# Altium footprint library Transistors.PcbLib: 33 footprints (part 2 of 3)
Each footprint in its own frame and in the unit in brackets; x right, y up, seen from the top. Pads: shape width x height; smd on the part's side, far side on the other; paste and mask are expansions set on the pad; w line width, h text height; cw(c..) or ccw(c..) is an arc to the next point about the centre after c.
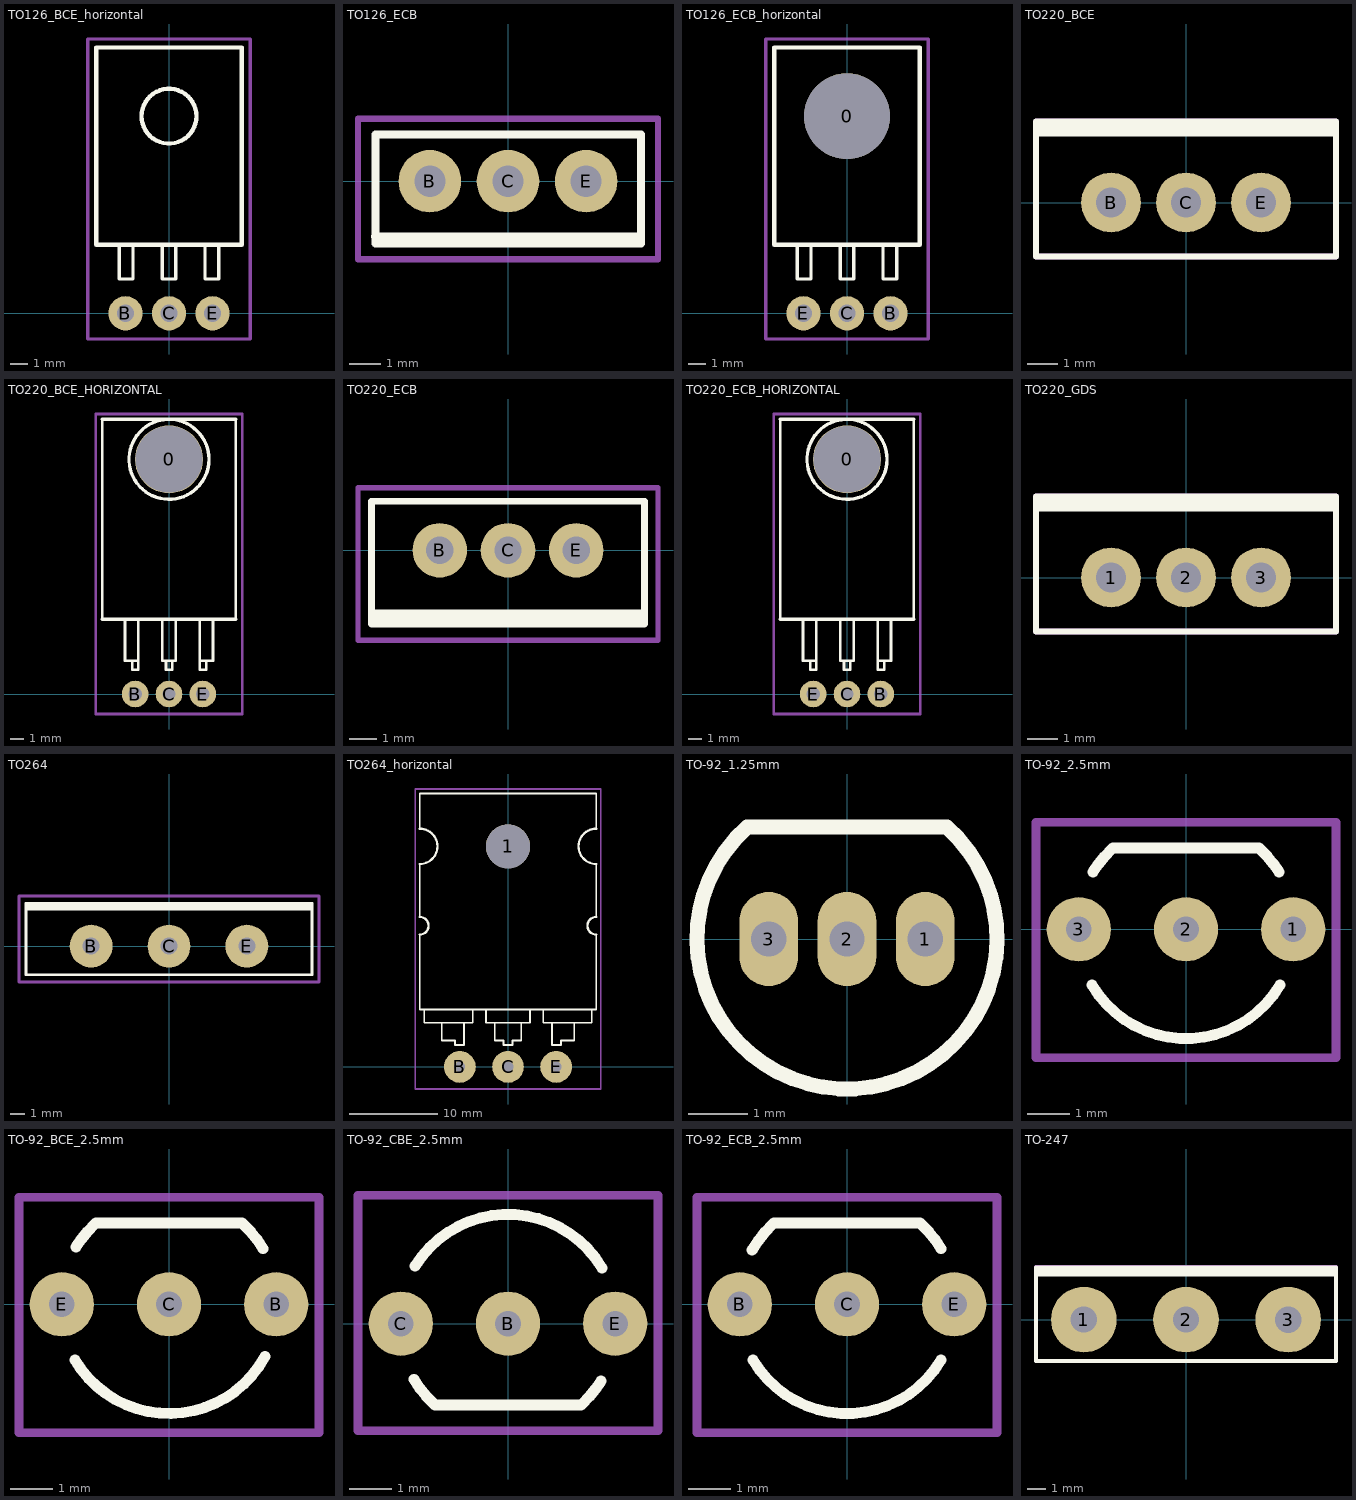
[diagram p1: the footprints below, top view; thin cyan lines are the x and y axes]

## TO126_BCE_horizontal [mm]
pads (3):
  round 2 hole 1: B(-2.54,0) C(0,0) E(2.54,0)
Top Overlay:
  circle w0.254: c0,11.5 r1.6
  lines w0.2: -2.9,3.995 -2.9,2 -2.1,2 -2.1,3.995 ; -0.4,3.995 -0.4,2 0.4,2 0.4,3.995 ; 2.1,3.995 2.1,2 2.9,2 2.9,3.995
  lines w0.254: -4.25,3.995 4.25,3.995 ; -4.25,4 -4.25,15.5 4.25,15.5 4.25,4
Mechanical 15:
  lines w0.2: -4.75,-1.5 4.75,-1.5 4.75,16 -4.75,16 -4.75,-1.5

## TO126_ECB [mm]
pads (3):
  round 2 hole 1: B(-2.5,0) C(0,0) E(2.5,0)
Top Overlay:
  lines w0.254: -4.25,-1.771 4.25,-1.771 ; -4.24,-2 -4.24,1.5 4.26,1.5 4.26,-2 -4.24,-2
Mechanical 15:
  lines w0.2: -4.8,-2.5 -4.8,2 4.8,2 4.8,-2.5 -4.8,-2.5

## TO126_ECB_horizontal [mm]
pads (4):
  round 5 hole 5: 0(0,11.5)
  round 2 hole 1: B(2.54,0) C(0,0) E(-2.54,0)
Top Overlay:
  lines w0.2: -2.9,3.995 -2.9,2 -2.1,2 -2.1,3.995 ; -0.4,3.995 -0.4,2 0.4,2 0.4,3.995 ; 2.1,3.995 2.1,2 2.9,2 2.9,3.995
  lines w0.254: -4.25,3.995 4.25,3.995 ; -4.25,4 -4.25,15.5 4.25,15.5 4.25,4
Mechanical 15:
  lines w0.2: -4.75,-1.5 -4.75,16 4.75,16 4.75,-1.5 -4.75,-1.5

## TO220_BCE [mm]
pads (3):
  round 2 hole 1: B(-2.5,0) C(0,0) E(2.5,0)
Top Overlay:
  lines w0.2: -5,2.3 5,2.3 ; -5,2.5 5,2.5 ; -5,-1.8 5,-1.8 5,2.7 -5,2.7 -5,-1.8
Mechanical 15:
  lines w0.2: -5,-1.8 -5,2.7 5,2.7 5,-1.8 -5,-1.8
3D body "User Library-TO-220-4.STEP": height 22.06, standoff -6.74, extent -5.1,-1.7 5.1,2.8

## TO220_BCE_HORIZONTAL [mm]
pads (4):
  round 5.1 hole 5: 0(0,17.6)
  round 2 hole 1: B(-2.54,0) C(0,0) E(2.54,0)
Top Overlay:
  circle w0.254: c0,17.6 r3
  lines w0.2: -5,5.6 -5,20.6 ; -3.3,5.6 -3.3,2.5 -2.3,2.5 ; -2.765,2.5 -2.765,1.825 -2.3,1.825 -2.3,2.5 ; -2.3,5.6 -2.3,2.5 ; -0.5,5.6 -0.5,2.5 0.5,2.5 0.5,5.6 ; -0.225,2.5 -0.225,1.825 0.25,1.825 0.25,2.5 ; 2.3,5.6 2.3,2.5 ; 2.79,2.5 2.79,1.825 2.3,1.825 2.3,2.5 ; 3.3,5.6 3.3,2.5 2.3,2.5 ; 5,5.6 5,20.6
  lines w0.254: -5,5.6 5,5.6 ; -5,20.6 5,20.6
Mechanical 15:
  lines w0.2: -5.5,-1.5 -5.5,21 5.5,21 5.5,-1.5 -5.5,-1.5

## TO220_ECB [mm]
pads (3):
  round 2 hole 1: B(-2.5,0) C(0,0) E(2.5,0)
Top Overlay:
  lines w0.254: -5,-2.5 5,-2.5 ; -5,-2.3 5,-2.3 ; -5,-2.7 5,-2.7 5,1.8 -5,1.8 -5,-2.7
Mechanical 15:
  lines w0.2: -5.5,-3.3 5.5,-3.3 5.5,2.3 -5.5,2.3 -5.5,-3.3

## TO220_ECB_HORIZONTAL [mm]
pads (4):
  round 5.1 hole 5: 0(0,17.6)
  round 2 hole 1: B(2.54,0) C(0,0) E(-2.54,0)
Top Overlay:
  circle w0.254: c0,17.6 r3
  lines w0.2: -5,5.6 -5,20.6 ; -3.3,5.6 -3.3,2.5 -2.3,2.5 ; -2.765,2.5 -2.765,1.825 -2.3,1.825 -2.3,2.5 ; -2.3,5.6 -2.3,2.5 ; -0.5,5.6 -0.5,2.5 0.5,2.5 0.5,5.6 ; -0.225,2.5 -0.225,1.825 0.25,1.825 0.25,2.5 ; 2.3,5.6 2.3,2.5 ; 2.79,2.5 2.79,1.825 2.3,1.825 2.3,2.5 ; 3.3,5.6 3.3,2.5 2.3,2.5 ; 5,5.6 5,20.6
  lines w0.254: -5,5.6 5,5.6 ; -5,20.6 5,20.6
Mechanical 15:
  lines w0.2: -5.5,-1.5 -5.5,21 5.5,21 5.5,-1.5 -5.5,-1.5

## TO220_GDS [mm]
pads (3):
  round 2 hole 1: 1(-2.5,0) 2(0,0) 3(2.5,0)
Top Overlay:
  lines w0.2: -5,2.3 5,2.3 ; -5,2.5 5,2.5 ; -5,-1.8 -5,2.7 5,2.7 5,-1.8 -5,-1.8
TopAssy:
  lines w0.2: -5,-1.8 5,-1.8 5,2.7 -5,2.7 -5,-1.8
3D body "User Library-IRFZ44N Transistors MOSFET N-Channel TO-220AB.STEP": height 20.36, standoff -12.52, extent -5.08,-1.5 5.08,2.705

## TO264 [mm]
pads (3):
  round 3 hole 1.2: B(-5.45,0) C(0,0) E(5.45,0)
Top Overlay:
  lines w0.2: -10,2.6 10,2.6 ; -10,2.8 10,2.8 ; -10,-2 -10,3 10,3 10,-2 -10,-2
Mechanical 15:
  lines w0.2: -10.5,-2.5 10.5,-2.5 10.5,3.5 -10.5,3.5 -10.5,-2.5

## TO264_horizontal [mm]
pads (4):
  round 5 hole 5: 1(0,25)
  round 3.6 hole 1.2: B(-5.45,0) C(0,0) E(5.45,0)
Top Overlay:
  lines w0.2: -10,15 -10,6.5 10,6.5 10,15 ; -10,17 -10,23 ; -10,27 -10,31 10,31 10,27 ; -9.5,6.5 -9.5,5 -4,5 -4,6.5 ; -7.5,5 -7.5,3 -6,3 -6,2.5 -5,2.5 -5,5 ; -2.5,6.5 -2.5,5 2.5,5 2.5,6.5 ; -1.5,5 -1.5,3 -0.5,3 -0.5,2.5 0.5,2.5 0.5,3 1.5,3 1.5,5 ; 4,6.5 4,5 9.5,5 9.5,6.5 ; 5,5 5,2.5 5.5,2.5 6,2.5 6,3 7.5,3 7.5,5 ; 10,17 10,23
  lines w0.254: -10,15 ccw(c-10,16) -10,17 ; -10,23 ccw(c-10,25) -10,27 ; 10,15 cw(c10,16) 10,17 ; 10,23 cw(c10,25) 10,27
Mechanical 15:
  lines w0.2: -10.5,-2.5 10.5,-2.5 10.5,31.5 -10.5,31.5 -10.5,-2.5

## TO-92_1.25mm [mm]
pads (3):
  oval 1x1.6 hole 0.6: 1(1.33,0) 2(0,0) 3(-1.33,0)
Top Overlay:
  lines w0.254: -1.7,1.9 ccw(c0,0) 1.7,1.9 -1.7,1.9
3D body "User Library-TO-92_Str.STEP": height 10, standoff -3, extent -2.613,-2.613 2.613,1.59

## TO-92_2.5mm [mm]
pads (3):
  round 1.5 hole 0.6: 1(2.5,0) 2(0,0) 3(-2.5,0)
Top Overlay:
  lines w0.254: -2.195,-1.297 ccw(c0,0) 2.195,-1.297 ; -2.168,1.342 cw(c0,0) -1.735,1.868 ; -1.7,1.9 1.7,1.9 ; 1.74,1.864 cw(c0,0) 2.168,1.342
Mechanical 15:
  lines w0.2: -3.5,-3 -3.5,2.5 3.5,2.5 3.5,-3 -3.5,-3

## TO-92_BCE_2.5mm [mm]
pads (3):
  round 1.5 hole 0.6: B(2.5,0) C(0,0) E(-2.5,0)
Top Overlay:
  lines w0.254: -2.195,-1.297 ccw(c0,0) 2.238,-1.221 ; -2.168,1.342 cw(c0,0) -1.735,1.868 ; -1.7,1.9 1.7,1.9 ; 1.74,1.864 cw(c0,0) 2.195,1.297
Mechanical 15:
  lines w0.2: -3.5,-3 -3.5,2.5 3.5,2.5 3.5,-3 -3.5,-3

## TO-92_CBE_2.5mm [mm]
pads (3):
  round 1.5 hole 0.6: B(0,0) C(-2.5,0) E(2.5,0)
Top Overlay:
  lines w0.254: -2.195,-1.297 ccw(c0,0) -1.74,-1.864 ; -2.168,1.342 cw(c0,0) 2.195,1.297 ; -1.7,-1.9 1.7,-1.9 ; 1.735,-1.868 ccw(c0,0) 2.168,-1.342
Mechanical 15:
  lines w0.2: -3.5,-2.5 -3.5,3 3.5,3 3.5,-2.5 -3.5,-2.5

## TO-92_ECB_2.5mm [mm]
pads (3):
  round 1.5 hole 0.6: B(-2.5,0) C(0,0) E(2.5,0)
Top Overlay:
  lines w0.254: -2.214,1.265 cw(c0,0) -1.735,1.868 ; -2.195,-1.297 ccw(c0,0) 2.195,-1.297 ; -1.7,1.9 1.7,1.9 ; 1.74,1.864 cw(c0,0) 2.195,1.297
Mechanical 15:
  lines w0.2: -3.5,-3 3.5,-3 3.5,2.5 -3.5,2.5 -3.5,-3

## TO-247 [mm]
pads (3):
  round 3.5 hole 1.4: 1(-5.45,0) 2(0,0) 3(5.45,0)
Top Overlay:
  lines w0.2: -8,2.4 8,2.4 ; -8,2.6 8,2.6 ; -8,-2.2 -8,2.8 8,2.8 8,-2.2 -8,-2.2
Mechanical 15:
  lines w0.2: -8,-2.2 8,-2.2 8,2.8 -8,2.8 -8,-2.2
3D body "User Library-TO-247 CASE 340L-02 Vertical.STEP": height 27.55, standoff -13.85, extent -8,-2.2 8,2.8